# Altium schematic symbol library Systolic.SCHLIB: 40 symbols
Pins are listed as number, name and electrical type; pins without a type are passive.

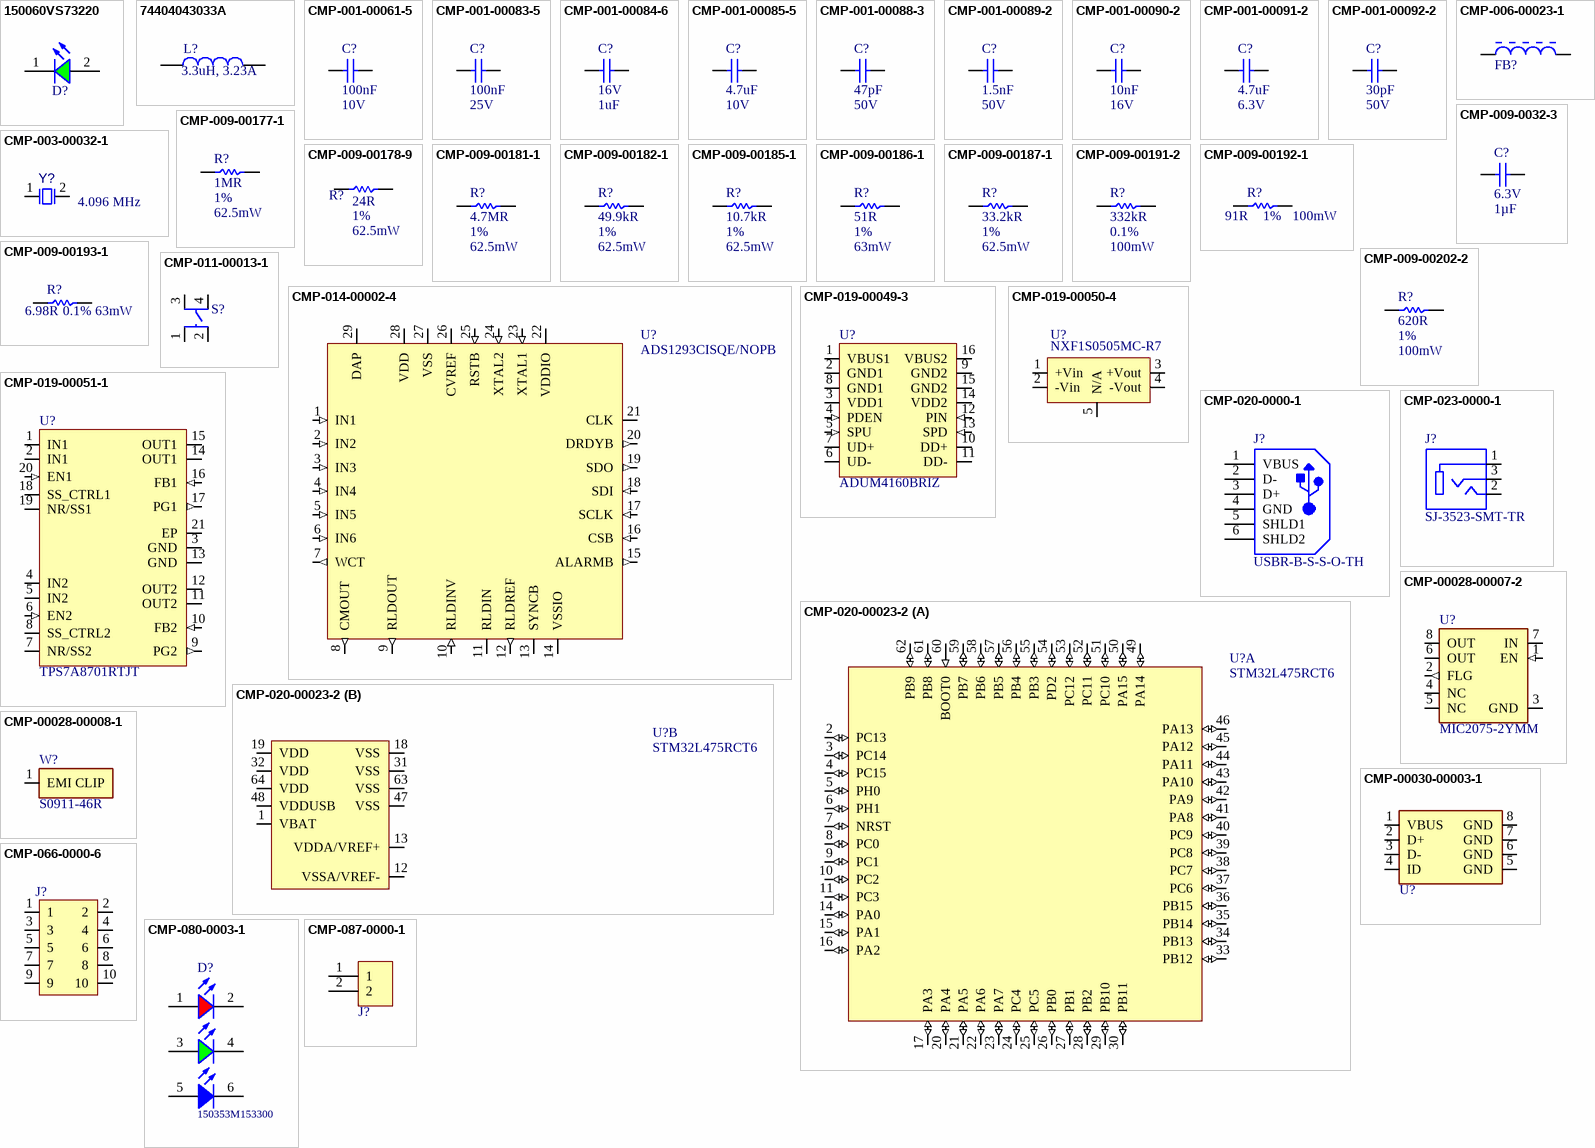
[diagram p0: symbols 150060VS73220 to CMP-087-0000-1]

## 150060VS73220
designator D?  (value not drawn)
WL-SMCC SMD Mono-color Chip LED Compact, size 0603, Bright Green, 2V, 120deg; Dominant Wavelength: 573nm; Luminous Intensity: 60mcd; Peak Wavelength: 575nm; Chip Technology: AlInGaP; ComponentLink1URL: http://www.we-online.de; ComponentLink2Description: Datasheet; ComponentLink2URL: https://katalog.we-online.com/led/datasheet/150060VS73220.pdf; Part Number: 150060VS73220; Published Date: July 2019; Publisher: Wurth Elektronik; Size: 0603; Viewing Angle: 120deg; Packaging: Tape and Reel; Emitting Color: Bright Green; Mounting Technology: SMT; Forward Voltage: 2V; Operating Temperature: -40 to +85degC
footprint WL-SMCC_0603_RS_VS_YS
pins: 1 K, 2 A

## 74404043033A
designator L?, comment 3.3uH, 3.23A
WE-LQS SMT Power Inductor, size 4025, 3.3uH, 3.23A; Manufacturer: Wurth Elektronik; Manufacturer Part Number: 74404043033A; Saturation Current: 1.75A; Self Resonant Frequency: 75MHz; DC Resistance: 33mOhm; ComponentLink1Description: Manufacturer; ComponentLink1URL: http://www.we-online.de; ComponentLink2Description: Datasheet; ComponentLink2URL: https://www.we-online.com/catalog/datasheet/74404043033A.pdf; Published Date: May 2020; Rated Current: 3.23A; Operating Temperature: -40 to +125degC; Mounting Technology: SMT; Packaging: Tape and Reel; Inductance: 3.3uH; Size: 4025
footprint WE-LQS_4025
pins: 1, 2

## CMP-001-00061-5
designator C?, comment Capacitance: 100nF  Voltage Rating: 10V  (hidden comment: C0402C104K8PACTU)
Cap Ceramic 0.1uF 10V X5R 10% SMD 0402 85°C; Manufacturer 1: KEMET; Dissipation Factor: 5%; Number of Pins: 2; Case Code (Metric): 1005; Min Operating Temperature: -55°C; Thickness: 0.022inch; Radiation Hardening: No; Packaging: Tape and Reel; Depth: 0.5mm; Voltage: 10V; Lead Pitch: 0.3mm; Voltage Rating (DC): 10V; Mount: Surface Mount,PCB; Max Operating Temperature: 85°C; Termination: SMD/SMT; Case Code (Imperial): 0402; Width: 0.02inch; REACH SVHC: No SVHC; Contact Plating: Tin,Matte; Length: 1mm; Package Quantity: 1; Dielectric: X5R; Tolerance: 10%; Lead Free: Lead Free; Dielectric Material: Ceramic; Case/Package: 0402; Height: 0.5mm; Manufacturer Part Number 1: C0402C104K8PACTU; Component Type: Capacitors
footprint 0402 CAPACITOR (Chip Capacitor, 2-Leads, Body 1.00x0.50mm, IPC Medium Density)
pins: 1 (power), 2 (power)

## CMP-001-00083-5
designator C?, comment value 100nF  Voltage Rating: 25V  (hidden comment: CGA3E2X7R1E104K080AA)
Cap Ceramic 0.1uF 25V X7R 10% SMD 0603 125°C; Manufacturer 1: TDK; Max Operating Temperature: 125°C; Mount: Surface Mount; Thickness: 0.035inch; Composition: Ceramic; Lead Free: Lead Free; Case/Package: 0603; Packaging: Tape and Reel; Ratings: AEC-Q200; Min Operating Temperature: -55°C; Weight: 7.1E-05oz; Width: 0.031inch; Termination: SMD/SMT; Tolerance: 10%; Package Quantity: 1; REACH SVHC: No SVHC; Dielectric: X7R; Voltage Rating (DC): 25V; Case Code (Imperial): 0603; Height: 0.8mm; Case Code (Metric): 1608; Depth: 0.8mm; Length: 1.6mm; Manufacturer Part Number 1: CGA3E2X7R1E104K080AA; Component Type: Capacitors
footprint 0603 CAPACITOR (Chip Capacitor, 2-Leads, Body 1.60x0.80mm, IPC Medium Density)
pins: 1 (power), 2 (power)

## CMP-001-00084-6
designator C?, comment Voltage Rating: 16V  Capacitance: 1uF  (hidden comment: EMK105BJ105KV-F)
Cap Ceramic 1uF 16V X5R 10% SMD 0402 85°C; Manufacturer 1: Taiyo Yuden; Case Code (Metric): 1005; Thickness: 0.022inch; REACH SVHC: Unknown; Termination: SMD/SMT; Packaging: Tape and Reel; Max Operating Temperature: 85°C; Package Quantity: 1; Tolerance: 10%; Mount: Surface Mount; Number of Pins: 2; Halogen Free: Halogen Free; Height: 0.5mm; Voltage Rating (DC): 16V; Case Code (Imperial): 0402; Case/Package: 0402; Width: 0.02inch; Depth: 0.5mm; Radiation Hardening: No; Min Operating Temperature: -55°C; Length: 1mm; Dielectric: X5R; Manufacturer Part Number 1: EMK105BJ105KV-F; Component Type: Capacitors
footprint 0402 CAPACITOR (Chip Capacitor, 2-Leads, Body 1.00x0.50mm, IPC Medium Density)
pins: 1 (power), 2 (power)

## CMP-001-00085-5
designator C?, comment value 4.7uF  Voltage Rating: 10V  (hidden comment: LMK107BJ475KA-T)
Cap Ceramic 4.7uF 10V X5R 10% SMD 0603 85°C; Manufacturer 1: Taiyo Yuden; Case Code (Imperial): 0603; Number of Pins: 2; Dielectric: X5R; Dielectric Material: Ceramic; Contact Plating: Nickel; REACH SVHC: Unknown; Package Quantity: 1; Width: 0.031inch; Lead Free: Lead Free; Min Operating Temperature: -55°C; Packaging: Tape and Reel; Height: 0.8mm; Case Code (Metric): 1608; Length: 1.6mm; Tolerance: 10%; Case/Package: 0603; Max Operating Temperature: 85°C; Radiation Hardening: No; Mount: Surface Mount; Voltage Rating (DC): 10V; Depth: 0.8mm; Halogen Free: Halogen Free; Termination: SMD/SMT; Thickness: 0.035inch; Manufacturer Part Number 1: LMK107BJ475KA-T; Component Type: Capacitors
footprint 0603 CAPACITOR (Chip Capacitor, 2-Leads, Body 1.60x0.80mm, IPC Medium Density)
pins: 1 (power), 2 (power)

## CMP-001-00088-3
designator C?, comment Capacitance: 47pF  Voltage Rating: 50V  (hidden comment: MCMT15N470F500CT)
Cap Ceramic 47pF 50V C0G 1% SMD 0402 125°C; Manufacturer 1: Multicomp; Dielectric: C0G; Case Code (Metric): 1005; Max Operating Temperature: 125°C; Case/Package: 0402; Tolerance: 1%; Voltage Rating (DC): 50V; REACH SVHC: No SVHC; Packaging: Cut Tape; Case Code (Imperial): 0402; Min Operating Temperature: -55°C; Manufacturer Part Number 1: MCMT15N470F500CT; Component Type: Capacitors
footprint 0402 CAPACITOR (Chip Capacitor, 2-Leads, Body 1.00x0.50mm, IPC Medium Density)
pins: 1 (power), 2 (power)

## CMP-001-00089-2
designator C?, comment Capacitance: 1.5nF  Voltage Rating: 50V  (hidden comment: 0402B152J500CT)
Cap Ceramic 1.5nF 50V X7R 5% SMD 0402 125°C; Manufacturer 1: Walsin Technologies; Packaging: Tape and Reel; Max Operating Temperature: 125°C; Case Code (Metric): 1005; Length: 1mm; Voltage Rating (DC): 50V; Tolerance: 5%; Min Operating Temperature: -55°C; REACH SVHC: Unknown; Case Code (Imperial): 0402; Dielectric: X7R; Depth: 0.5mm; Case/Package: 0402; Manufacturer Part Number 1: 0402B152J500CT; Component Type: Capacitors
footprint 0402 CAPACITOR (Chip Capacitor, 2-Leads, Body 1.00x0.50mm, IPC Medium Density)
pins: 1 (power), 2 (power)

## CMP-001-00090-2
designator C?, comment Capacitance: 10nF  Voltage Rating: 16V  (hidden comment: MC0402B103J160CT)
Cap Ceramic 10nF 16V X7R 5% SMD 0402 125°C; Manufacturer 1: Multicomp; Case Code (Imperial): 0402; Case Code (Metric): 1005; Packaging: Tape and Reel; Min Operating Temperature: -55°C; Voltage Rating (DC): 16V; Case/Package: 0402; Dielectric: X7R; REACH SVHC: Unknown; Tolerance: 5%; Max Operating Temperature: 125°C; Manufacturer Part Number 1: MC0402B103J160CT; Component Type: Capacitors
footprint 0402 CAPACITOR (Chip Capacitor, 2-Leads, Body 1.00x0.50mm, IPC Medium Density)
pins: 1 (power), 2 (power)

## CMP-001-00091-2
designator C?, comment Capacitance: 4.7uF  Voltage Rating: 6.3V  (hidden comment: CL10A475KQ8NNNC)
Cap Ceramic 4.7uF 6.3V X5R 10% SMD 0402 85°C; Manufacturer 1: Samsung; Max Operating Temperature: 85°C; Radiation Hardening: No; Voltage: 6.3V; Case Code (Metric): 1608; Case/Package: 0603; Tolerance: 10%; Dielectric: X5R; Mount: Surface Mount; Packaging: Tape and Reel; Height: 0.8mm; Thickness: 0.035inch; Length: 1.6mm; Contact Plating: Tin; Package Quantity: 1; Depth: 0.8mm; Min Operating Temperature: -55°C; Width: 0.031inch; Material: Ceramic; Case Code (Imperial): 0603; Manufacturer Part Number 1: CL10A475KQ8NNNC; Component Type: Capacitors
footprint 0402 CAPACITOR (Chip Capacitor, 2-Leads, Body 1.00x0.50mm, IPC Medium Density)
pins: 1 (power), 2 (power)

## CMP-001-00092-2
designator C?, comment Capacitance: 30pF  Voltage Rating: 50V  (hidden comment: MC0402N300J500CT)
Cap Ceramic 30pF 50V C0G 5% SMD 0402 125°C; Manufacturer 1: Multicomp; Temperature Coefficient: 30ppm/°C; Packaging: Cut Tape; Case/Package: 0402; Min Operating Temperature: -55°C; Number of Pins: 2; Voltage Rating (DC): 50V; Case Code (Imperial): 0402; Max Operating Temperature: 125°C; REACH SVHC: No SVHC; Case Code (Metric): 1005; Width: 0.5mm; Dielectric: C0G; Tolerance: 5%; Manufacturer Part Number 1: MC0402N300J500CT; Component Type: Capacitors
footprint 0402 CAPACITOR (Chip Capacitor, 2-Leads, Body 1.00x0.50mm, IPC Medium Density)
pins: 1 (power), 2 (power)

## CMP-003-00032-1
designator Y?, comment Frequency: 4.096 MHz  (hidden comment: ABLS-4.096MHZ-20-B-4-Y-T)
Load Capacitance: 20 pF; Frequency Tolerance: 30ppm; Component Type: Crystals & Oscillators
footprint Crystal
pins: 1, 2

## CMP-006-00023-1
designator FB?, comment BLM15AX601SN1D  (value not drawn)
Ferrite Beads Multi-Layer 600Ohm 25% 100MHz 500mA 340mOhm DCR 0402 T/R; Manufacturer 1: Murata; Number of Lines: 1; DC Resistance (DCR): 340mR; Material: Steel,Ferrite; Impedance: 600R; Core Material: Ferrite; Width: 0.5mm; Lead Free: Lead Free; Case/Package: 0402; Max Current Rating: 500mA; Number of Pins: 2; Case Code (Metric): 1005; Case Code (Imperial): 0402; Min Operating Temperature: -55°C; REACH SVHC: No SVHC; Length: 1mm; Termination: SMD/SMT; Package Quantity: 1; Tolerance: 25%; Current Rating: 500mA; Depth: 0.5mm; Height: 0.5mm; Max Operating Temperature: 125°C; Number of Circuits: 1; Test Frequency: 100MHz; Packaging: Tape and Reel; Max DC Current: 500mA; Manufacturer Part Number 1: BLM15AX601SN1D; Component Type: Inductors
footprint 0402 RESISTOR (Chip Resistor, 2-Leads, Body 1.00x0.50mm, IPC Medium Density)
pins: 1, 2

## CMP-009-0032-3
designator C?, comment value 1µF  Voltage Rating (DC): 6.3V  (hidden comment: C0402C105K9PACTU)
CAP CER 1UF 6.3V 10% X5R 0402; Manufacturer: KEMET; Dielectric Material: Ceramic; ComponentLink2URL: https://datasheet.ciiva.com/11786/0900766b8116eb59-11786028.pdf?src-supplier=RSComponents; Mount: Surface Mount; REACH SVHC: No SVHC; Height: 0.5mm; Max Operating Temperature: 85°C; ComponentLink5Description: https://datasheet.ciiva.com/18192/getdatasheetpartid-127800-18192427.pdf?src-supplier=Verical; Category: Ceramic Capacitors; Package Quantity: 1; Manufacturer Part Number: C0402C105K9PACTU; ComponentLink5URL: https://datasheet.ciiva.com/18192/getdatasheetpartid-127800-18192427.pdf?src-supplier=Verical; Case/Package: 0402; Tolerance: 10%; Packaging: Tape and Reel; ComponentLink4Description: https://datasheet.ciiva.com/7747/40889-7747623.pdf?src-supplier=Element14; Width: 0.02inch; RoHS: Yes; Depth: 0.5mm; ComponentLink1URL: https://datasheet.ciiva.com/28645/1789732-28645392.pdf?src-supplier=Element14; Length: 1mm; Source: MyLib.SchLib; Stock 1: 76830; Lead Pitch: 0.3mm; Pins: 2; Thickness: 0.022inch; Termination: SMD/SMT; ComponentLink3URL: https://datasheet.ciiva.com/7747/kem-c1006-x5r-smd-7747445.pdf?src-supplier=Element14; Pricing 1: 10=0.02950, 100=0.01910, 500=0.01410, 2500=0.01080, 5000=0.00930 (GBP); ComponentLink1Description: https://datasheet.ciiva.com/28645/1789732-28645392.pdf?src-supplier=Element14; ComponentLink2Description: https://datasheet.ciiva.com/11786/0900766b8116eb59-11786028.pdf?src-supplier=RSComponents; Design Item ID: C0402C105K9PACTU; Radiation Hardening: No; Voltage Rating: 6.3V; ComponentLink4URL: https://datasheet.ciiva.com/7747/40889-7747623.pdf?src-supplier=Element14; Min Operating Temperature: -55°C; Dielectric: X5R; Voltage: 6.3V; ComponentLink3Description: https://datasheet.ciiva.com/7747/kem-c1006-x5r-smd-7747445.pdf?src-supplier=Element14; Lead Free: Lead Free; Manufacturer 1: KEMET; Manufacturer Part Number 1: C0402C105K9PACTU; Component Type: Capacitors
footprint 0402 CAPACITOR (Chip Capacitor, 2-Leads, Body 1.00x0.50mm, IPC Medium Density)
pins: 1 (power), 2 (power)

## CMP-009-00177-1
designator R?, comment Resistance: 1MR  Tolerance: 1%  Power Rating: 62.5mW  (hidden comment: MCWR04X1004FTL)
1MR 0402; Manufacturer 1: Multicomp; Voltage Rating (DC): 50V; Temperature Coefficient: 100ppm/°C; Case Code (Metric): 1005; Case/Package: 0402; Voltage Rating: 50V; Mount: Surface Mount; Packaging: Cut Tape; REACH SVHC: No SVHC; Composition: Thick Film; Case Code (Imperial): 0402; Manufacturer Part Number 1: MCWR04X1004FTL; Component Type: Resistors
footprint 0402 RESISTOR (Chip Resistor, 2-Leads, Body 1.00x0.50mm, IPC Medium Density)
pins: 1 (power), 2 (power)

## CMP-009-00178-9
designator R?, comment Resistance: 24R  Tolerance: 1%  Power Rating: 62.5mW  (hidden comment: MCMR04X24R0FTL)
MULTICOMP - MCMR04X24R0FTL - RES, CERAMIC 24R, 1%, 0.063W, 0402; Voltage Rating (DC): 50V; Temperature Coefficient: 100ppm/°C; REACH SVHC: No SVHC; Case/Package: 0402; Packaging: Cut Tape; Voltage Rating: 50V; Case Code (Metric): 1005; Composition: Ceramic; Case Code (Imperial): 0402; Manufacturer 1: Multicomp; Manufacturer Part Number 1: MCMR04X24R0FTL; Component Type: Resistors
footprint 0402 RESISTOR (Chip Resistor, 2-Leads, Body 1.00x0.50mm, IPC Medium Density)
pins: 1 (power), 2 (power)

## CMP-009-00181-1
designator R?, comment Resistance: 4.7MR  Tolerance: 1%  Power Rating: 62.5mW  (hidden comment: MCWR04W4704FTL)
Res Thick FIlm 4.7MR 50V 1% SMD 0402; Manufacturer 1: Multicomp; Temperature Coefficient: 100ppm/°C; REACH SVHC: No SVHC; Voltage Rating: 50V; Voltage Rating (DC): 50V; Case/Package: 0402; Case Code (Metric): 1005; Packaging: Cut Tape; Mount: Surface Mount; Case Code (Imperial): 0402; Composition: Thick Film; Manufacturer Part Number 1: MCWR04W4704FTL; Component Type: Resistors
footprint 0402 RESISTOR (Chip Resistor, 2-Leads, Body 1.00x0.50mm, IPC Medium Density)
pins: 1 (power), 2 (power)

## CMP-009-00182-1
designator R?, comment Resistance: 49.9kR  Tolerance: 1%  Power Rating: 62.5mW  (hidden comment: MCWR04X4992FTL)
Res Thick FIlm 49.9kR 50V 1% SMD 0402; Manufacturer 1: Multicomp; Temperature Coefficient: 100ppm/°C; Packaging: Cut Tape; Composition: Thick Film; Voltage Rating: 50V; Case/Package: 0402; REACH SVHC: No SVHC; Voltage Rating (DC): 50V; Case Code (Imperial): 0402; Case Code (Metric): 1005; Manufacturer Part Number 1: MCWR04X4992FTL; Component Type: Resistors
footprint 0402 RESISTOR (Chip Resistor, 2-Leads, Body 1.00x0.50mm, IPC Medium Density)
pins: 1 (power), 2 (power)

## CMP-009-00185-1
designator R?, comment Resistance: 10.7kR  Tolerance: 1%  Power Rating: 62.5mW  (hidden comment: MCWR04X1072FTL)
MULTICOMP - MCMR04X24R0FTL - RES, CERAMIC 10.7kR, 1%, 0.063W, 0402; Voltage Rating (DC): 50V; Temperature Coefficient: 100ppm/°C; Case Code (Metric): 1005; Composition: Ceramic; REACH SVHC: No SVHC; Case Code (Imperial): 0402; Packaging: Cut Tape; Voltage Rating: 50V; Case/Package: 0402; Manufacturer 1: Multicomp; Manufacturer Part Number 1: MCWR04X1072FTL; Component Type: Resistors
footprint 0402 RESISTOR (Chip Resistor, 2-Leads, Body 1.00x0.50mm, IPC Medium Density)
pins: 1 (power), 2 (power)

## CMP-009-00186-1
designator R?, comment Resistance: 51R  Tolerance: 1%  Power Rating: 63mW  (hidden comment: CRCW040251R0FKED)
51R 0402 AEC-Q200; Manufacturer 1: Vishay; Voltage Rating (DC): 50V; Temperature Coefficient: 100ppm/°C; Lead Free: Lead Free; REACH SVHC: Unknown; Package Quantity: 10; Case Code (Imperial): 0402; Case Code (Metric): 1005; Military Standard: Not; Length: 1mm; Width: 0.5mm; Number of Terminations: 2; Voltage Rating: 50V; Weight: 2.3E-05oz; Case/Package: 0402; Max Operating Temperature: 155°C; Max Power Dissipation: 63mW; Termination: SMD/SMT; Depth: 0.5mm; Packaging: Tape and Reel; Features: Automotive AEC-Q200; Min Operating Temperature: -55°C; Composition: Thick Film; Radiation Hardening: No; Number of Pins: 2; Height: 0.35mm; Contact Plating: Tin; Manufacturer Part Number 1: CRCW040251R0FKED; Component Type: Resistors
footprint 0402 RESISTOR (Chip Resistor, 2-Leads, Body 1.00x0.50mm, IPC Medium Density)
pins: 1 (power), 2 (power)

## CMP-009-00187-1
designator R?, comment Resistance: 33.2kR  Tolerance: 1%  Power Rating: 62.5mW  (hidden comment: MCWR04X3322FTL)
MULTICOMP - MCMR04X24R0FTL - RES, CERAMIC 33.2kR, 1%, 0.063W, 0402; Voltage Rating (DC): 50V; Temperature Coefficient: 100ppm/°C; Voltage Rating: 50V; Case Code (Imperial): 0402; Composition: Ceramic; Case Code (Metric): 1005; Packaging: Cut Tape; REACH SVHC: No SVHC; Case/Package: 0402; Manufacturer 1: Multicomp; Manufacturer Part Number 1: MCWR04X3322FTL; Component Type: Resistors
footprint 0402 RESISTOR (Chip Resistor, 2-Leads, Body 1.00x0.50mm, IPC Medium Density)
pins: 1 (power), 2 (power)

## CMP-009-00191-2
designator R?, comment Resistance: 332kR  Tolerance: 0.1%  Power Rating: 100mW  (hidden comment: MCT06030E3323BP100)
Surface Mount Thin Film Resistor, Mct Series, 332 Kohm, 100 Mw, - 0.1%, 75 V Rohs Compliant: Yes; Manufacturer 1: Vishay; Voltage Rating: 75V; Composition: Thin Film; Voltage Rating (DC): 75V; REACH SVHC: Unknown; Lead Free: Lead Free; Packaging: Cut Tape; Case Code (Metric): 1608; Case Code (Imperial): 0603; Mount: Surface Mount; Case/Package: 0603; Manufacturer Part Number 1: MCT06030E3323BP100; Component Type: Resistors
footprint MCT06030E3323BP100 (Chip Resistor, 2-Leads, Body 1.55x0.85mm, IPC Medium Density)
pins: 1 (power), 2 (power)

## CMP-009-00192-1
designator R?, comment Resistance: 91R  Tolerance: 1%  Power Rating: 100mW  (hidden comment: CRCW060391R0FKEA)
RES, THICK FILM 91R, 1%, 0.1W, 0603; Manufacturer 1: Vishay; Voltage Rating: 75V; Temperature Coefficient: 100ppm/°C; Height: 0.45mm; Packaging: Tape and Reel; Package Quantity: 10; Military Standard: Not; Composition: Thick Film; Contact Plating: Tin; Case Code (Imperial): 0603; Radiation Hardening: No; Weight: 7.1E-05oz; Case Code (Metric): 1608; Case/Package: 0603; REACH SVHC: Unknown; Termination: SMD/SMT; Lead Free: Lead Free; Depth: 0.85mm; Length: 1.55mm; Max Operating Temperature: 155°C; Min Operating Temperature: -55°C; Voltage Rating (DC): 75V; Number of Pins: 2; Number of Terminations: 2; Features: Automotive AEC-Q200; Width: 0.033inch; Max Power Dissipation: 100mW; Manufacturer Part Number 1: CRCW060391R0FKEA; Component Type: Resistors
footprint 0603 RESISTOR (Chip Resistor, 2-Leads, Body 1.60x0.80mm, IPC Medium Density)
pins: 1 (power), 2 (power)

## CMP-009-00193-1
designator R?, comment Resistance: 6.98R  Tolerance: 0.1%  Power Rating: 63mW  (hidden comment: RN73C1J6R98BTDF)
RES, THIN FILM 6.98R, 0.1%, 0.063W, 0603; Manufacturer 1: TE Connectivity; Voltage Rating (DC): 50V; Temperature Coefficient: 10ppm/°C; Number of Resistors: 1; Max Operating Temperature: 155°C; Case Code (Metric): 1608; Length: 1.55mm; Weight: 7.1E-05oz; Composition: Thin Film; Height: 0.45mm; Case Code (Imperial): 0603; Case/Package: 0603; Mount: Surface Mount; Min Operating Temperature: -55°C; Voltage Rating: 50V; Termination: Solder; Width: 0.8mm; Package Quantity: 1000; Packaging: Tape and Reel; ELV: Compliant; Number of Terminations: 2; Manufacturer Part Number 1: RN73C1J6R98BTDF; Component Type: Resistors
footprint 0603 RESISTOR (Chip Resistor, 2-Leads, Body 1.60x0.80mm, IPC Medium Density)
pins: 1 (power), 2 (power)

## CMP-009-00202-2
designator R?, comment Resistance: 620R  Tolerance: 1%  Power Rating: 100mW  (hidden comment: MCMR06X6200FTL)
RES, CERAMIC, 620R, 1%, 0.1W, 0603; Manufacturer 1: Multicomp; Temperature Coefficient: 100ppm/°C; Voltage Rating: 75V; Case/Package: 0603; Case Code (Metric): 1608; Packaging: Cut Tape; REACH SVHC: No SVHC; Case Code (Imperial): 0603; Composition: Ceramic; Voltage Rating (DC): 75V; Manufacturer Part Number 1: MCMR06X6200FTL; Component Type: Resistors
footprint 0603 RESISTOR (Chip Resistor, 2-Leads, Body 1.60x0.80mm, IPC Medium Density)
pins: 1 (power), 2 (power)

## CMP-011-00013-1
designator S?, comment TL3305BF260QG  (value not drawn)
Switch Tactile N.O. SPST Round Button Gull Wing 0.05A 12VDC 2.55N SMD T/R; Manufacturer 1: E-Switch; Illumination Type: Non-Illuminated; Mechanical Life: 200000Cycles; Actuator Type: Standard; Operating Force: 260gf; Switch Travel: 0.2mm; Switch Function: Off-Mom; Lead Free: Lead Free; Throw Configuration: SPST; Termination: Gull Wing; Max Operating Temperature: 70°C; Mount: Surface Mount; Min Operating Temperature: -20°C; Packaging: Tape and Reel; Manufacturer Part Number 1: TL3305BF260QG; Component Type: Switches
footprint TL3305BF260QG-Footprint-1
pins: 1 (power), 2 (power), 3 (power), 4 (power)

## CMP-014-00002-4
designator U?, comment ADS1293CISQE/NOPB
AFE General Purpose 3ADC 24-Bit 3.3V/5V 28-Pin LLP EP T/R; Manufacturer 1: Texas Instruments; Operating Supply Current: 825uA; Number of Channels: 3; Resolution: 24b; Max Supply Voltage: 5.5V; Interface: SPI; Signal to Noise Ratio (SNR): 110dB; Min Supply Voltage: 2.7V; Conversion Rate: 25.6KS/s; Number of Bits: 24; Sampling Rate: 25KS/s; REACH SVHC: No SVHC; Length: 5mm; Max Operating Temperature: 85°C; Radiation Hardening: No; Type: General Purpose; Number of Pins: 28; Height: 0.8mm; Mount: Surface Mount; Min Operating Temperature: -20°C; Lead Free: Lead Free; Width: 5mm; Number of A/D Converters: 3; Packaging: Tape and Reel; Number of Converters: 3; Number of Inputs: 3; Manufacturer Part Number 1: ADS1293CISQE/NOPB; Component Type: Amplifiers
footprint QFN50P500X500X80_HS-29N (QFN, 28-Leads, Body 5.00x5.00mm, Pitch 0.50mm, Thermal Pad 2.95x2.95mm, IPC Medium Density)
pins: 1 IN1 (in), 2 IN2 (in), 3 IN3 (in), 4 IN4 (in), 5 IN5 (in), 6 IN6 (in), 7 WCT (out), 8 CMOUT (out), 9 RLDOUT (out), 10 RLDINV (in), 11 RLDIN (io), 12 RLDREF (out), 13 SYNCB (io), 14 VSSIO (power), 15 ALARMB (out), 16 CSB (in), 17 SCLK (in), 18 SDI (in), 19 SDO (out), 20 DRDYB (out), 21 CLK (io), 22 VDDIO (power), 23 XTAL1 (in), 24 XTAL2 (in), 25 RSTB (in), 26 CVREF (io), 27 VSS (power), 28 VDD (power), 29 DAP

## CMP-019-00049-3
designator U?, comment ADUM4160BRIZ
ANALOG DEVICES   ADUM4160BRIZ   Digital Isolator, 1, 60 ns, 3.1 V, 5.5 V, SOIC, 16 Pins; Isolated Power: No; Number of Channels: 2; Min Supply Voltage: 3.1V; Propagation Delay: 70ns; Max Supply Voltage: 5.5V; Rise Time: 20ns; Channel Type: Bidirectional; Nominal Supply Current: 6mA; Data Rate: 12Mbps; Max Input Current: 8mA; Turn-On Delay Time: 60ns; Depth: 2.65mm; Contact Plating: Tin,Matte; REACH SVHC: No SVHC; Min Operating Temperature: -40°C; Lead Free: Contains Lead; Number of Pins: 16; Packaging: Rail/Tube; Case/Package: SOIC; Length: 10.5mm; Package Quantity: 37; Max Operating Temperature: 105°C; Width: 7.6mm; Manufacturer 1: Analog Devices; Manufacturer Part Number 1: ADUM4160BRIZ; Component Type: Logic
footprint SOIC127P1030X265-16N (SOIC, 16-Leads, Body 12.80x7.50mm, Pitch 1.27mm, IPC Medium Density)
pins: 1 VBUS1 (power), 2 GND1 (power), 3 VDD1 (power), 4 PDEN (in), 5 SPU (in), 6 UD- (io), 7 UD+ (io), 8 GND1 (power), 9 GND2 (power), 10 DD+ (io), 11 DD- (io), 12 PIN (in), 13 SPD (in), 14 VDD2 (power), 15 GND2 (power), 16 VBUS2 (power)

## CMP-019-00050-4
designator U?, comment NXF1S0505MC-R7
Module Dc-dc 5 Vin 1-OUT 5V 0.2A 1W 5-PIN SMD T/r; Manufacturer 1: Murata; Manufacturer Part Number 1: NXF1S0505MC-R7; Component Type: Power Supply
footprint QFN254P1524X1067X501-6N (QFN, 6-Leads, Body 15.24x10.67mm, Pitch 2.54mm, IPC Medium Density)
pins: 1 +Vin (power), 2 -Vin (power), 3 +Vout (power), 4 -Vout (power), 5 N/A

## CMP-019-00051-1
designator U?, comment TPS7A8701RTJT
IC REG LIN POS ADJ 500MA 20QFN; Manufacturer 1: Texas Instruments; Min Input Voltage: 1.4V; Dropout Voltage: 100mV; Quiescent Current: 2.1mA; Voltage - Output 2: 5.2V; Number of Outputs: 2; Max Input Voltage: 6.5V; Packaging: Cut Tape; Lead Free: Lead Free; Current - Output 2: 500mA; REACH SVHC: No SVHC; Voltage - Output 1: 5.2V; Number of Pins: 20; Current - Output 1: 500mA; Min Operating Temperature: -40°C; Max Operating Temperature: 125°C; Manufacturer Part Number 1: TPS7A8701RTJT; Component Type: Power Supply
footprint QFN50P400X400X80_HS-21N (QFN, 20-Leads, Body 4.00x4.00mm, Pitch 0.50mm, Thermal Pad 2.70x2.70mm, IPC Medium Density)
pins: 1 IN1 (power), 2 IN1 (power), 3 GND (power), 4 IN2 (power), 5 IN2 (power), 6 EN2 (in), 7 NR/SS2 (power), 8 SS_CTRL2 (power), 9 PG2 (out), 10 FB2 (in), 11 OUT2 (power), 12 OUT2 (power), 13 GND (power), 14 OUT1 (power), 15 OUT1 (power), 16 FB1 (in), 17 PG1 (out), 18 SS_CTRL1 (power), 19 NR/SS1 (power), 20 EN1 (in), 21 EP (power)

## CMP-020-0000-1
designator J?, comment USBR-B-S-S-O-TH
Conn USB F 4 POS 2.5mm Solder RA Thru-Hole 4 Terminal 1 Port Tray; Manufacturer: SamtecInc.; Manufacturer 1: Samtec; Body Orientation: RightAngle; Rad Hard: No; Max Voltage Rating (AC): 30V; USB Standard: USB 2.0; Number of Contacts: 4; Number of Ports: 1; ComponentLink1Description: https://datasheet.ciiva.com/6743/1759611-6743744.pdf?src-supplier=Newark; Mounting Technology: ThroughHole; Datasheet URL: http://suddendocs.samtec.com/prints/usbr-b-s-x-o-th-x-mkt.pdf; Orientation: Right Angle; Length: 14.9mm; Max Operating Temperature: 85°C; Manufacturer Part Number 1: USBR-B-S-S-O-TH; ComponentLink5URL: https://datasheet.ciiva.com/3094/usb-b-3094454.pdf?src-supplier=Avnet; Package Quantity: 1; Case/Package: 4-Pin Through Hole Device, Body 16.3 x 12.04 mm, Pitch 2.5 mm; ComponentLink3URL: https://datasheet.ciiva.com/851/usbr-b-s-x-o-th-x-mkt-851782.pdf?src-supplier=Digi-Key; Manufacturer URL: http://www.samtec.com/; Min Operating Temperature: -50°C; REACH SVHC: No SVHC; Connector Type: USB; ComponentLink4Description: https://datasheet.ciiva.com/26826/getdatasheetpartid-475715-26826565.pdf?src-supplier=Verical; Depth: 16.5mm; Contact Plating: Gold; ComponentLink2URL: https://datasheet.ciiva.com/7622/452555-7622677.pdf?src-supplier=Element14; ComponentLink5Description: https://datasheet.ciiva.com/3094/usb-b-3094454.pdf?src-supplier=Avnet; Packaging: Trays; Package Reference: USBR-TH; Gender: F; Design Item ID: CMP-2000-07371-1; Number of Terminals: 4; Category: ConnectorAudioandVideo; ComponentLink1URL: https://datasheet.ciiva.com/6743/1759611-6743744.pdf?src-supplier=Newark; Pricing 1: 1=1.75000, 10=1.58800, 25=1.49040, 50=1.42560, 100=1.36080, 250=1.23120, 500=1.13400, 1000=0.97200, 2500=0.90720 (USD); Termination Method: Solder; Housing Material: Thermoplastic; Mounting: ThroughHole; Datasheet Version: Rev. J, 10/2010; ComponentLink3Description: https://datasheet.ciiva.com/851/usbr-b-s-x-o-th-x-mkt-851782.pdf?src-supplier=Digi-Key; Radiation Hardening: No; ComponentLink4URL: https://datasheet.ciiva.com/26826/getdatasheetpartid-475715-26826565.pdf?src-supplier=Verical; Pitch: 2.5mm; Source: Components - 12.06.20 - 19.51.SchLib; Mount: Through Hole,Horizontal; RoHS: Yes; Termination: Solder; Contact Material: Bronze; ComponentLink2Description: https://datasheet.ciiva.com/7622/452555-7622677.pdf?src-supplier=Element14; Type: USB; Stock 1: 4434; Component Type: Connectors
footprint SMTC-USBR-TH-4_V (THD, 4-Leads, Body 16.3x12.04mm, Pitch 2.5mm)
pins: 1 VBUS, 2 D-, 3 D+, 4 GND, 5 SHLD1, 6 SHLD2

## CMP-020-00023-2
designator U?, comment STM32L475RCT6
Ultra-low-power with FPU ARM Cortex-M4 MCU 80 MHz with 256 Kbytes Flash, USB OTG; Manufacturer 1: STMicroelectronics; Oscillator Type: Internal; Frequency: 80MHz; Peripherals: Brown-out Detect/Reset,PWM,WDT,DMA; Interface: I2C,SPI,USB,IrDA,MMC,SD,UART,USART; Memory Size: 256KB; Number of I/Os: 51; Core Architecture: ARM; Max Operating Temperature: 85°C; Min Operating Temperature: -40°C; Memory Type: FLASH; Case/Package: LQFP; Packaging: Tray; Manufacturer Part Number 1: STM32L475RCT6; Component Type: Processors
footprint TSQFP50P1200X1200X160-64N (TSQFP, 64-Leads, Body 10.00x10.00mm, Pitch 0.50mm, IPC Medium Density)
part A pins: 2 PC13 (io), 3 PC14 (io), 4 PC15 (io), 5 PH0 (io), 6 PH1 (io), 7 NRST (io), 8 PC0 (io), 9 PC1 (io), 10 PC2 (io), 11 PC3 (io), 14 PA0 (io), 15 PA1 (io), 16 PA2 (io), 17 PA3 (io), 20 PA4 (io), 21 PA5 (io), 22 PA6 (io), 23 PA7 (io), 24 PC4 (io), 25 PC5 (io), 26 PB0 (io), 27 PB1 (io), 28 PB2 (io), 29 PB10 (io), 30 PB11 (io), 33 PB12 (io), 34 PB13 (io), 35 PB14 (io), 36 PB15 (io), 37 PC6 (io), 38 PC7 (io), 39 PC8 (io), 40 PC9 (io), 41 PA8 (io), 42 PA9 (io), 43 PA10 (io), 44 PA11 (io), 45 PA12 (io), 46 PA13 (io), 49 PA14 (io), 50 PA15 (io), 51 PC10 (io), 52 PC11 (io), 53 PC12 (io), 54 PD2 (io), 55 PB3 (io), 56 PB4 (io), 57 PB5 (io), 58 PB6 (io), 59 PB7 (io), 60 BOOT0 (in), 61 PB8 (io), 62 PB9 (io)
part B pins: 1 VBAT (power), 12 VSSA/VREF- (power), 13 VDDA/VREF+ (power), 18 VSS (power), 19 VDD (power), 31 VSS (power), 32 VDD (power), 47 VSS (power), 48 VDDUSB (power), 63 VSS (power), 64 VDD (power)

## CMP-023-0000-1
designator J?, comment SJ-3523-SMT-TR
CONN JACK STEREO 3.5MM SMD R/A; Manufacturer 1: CUI; MF: CUI Devices; Number of Conductors: 3; Shielding: Unshielded; Current Rating: 1A; Number of Ports: 1; Gender: Female; ComponentLink2Description: https://datasheet.ciiva.com/7356/sj-352x-smt-series-7356569.pdf?src-supplier=Digi-Key; Availability: Unavailable; Case/Package: LGA-10 STMicroelectronics; ComponentLink2URL: https://datasheet.ciiva.com/7356/sj-352x-smt-series-7356569.pdf?src-supplier=Digi-Key; Price: None; Color: Black; ComponentLink1URL: https://datasheet.ciiva.com/7356/sj-352x-smt-series-7356553.pdf?src-supplier=Digi-Key; Pricing 1: 1000=0.51360, 2000=0.48150, 3000=0.46545, 5000=0.44940, 10000=0.42693, 25000=0.41730 (USD); Stock 1: 40782; Connector Type: Jack; Termination: Solder; Design Item ID: SJ-3523-SMT-TR; Lead Free: Lead Free; Contact Plating: Silver; Value: *; MP: SJ-3523-SMT-TR; ComponentLink1Description: https://datasheet.ciiva.com/7356/sj-352x-smt-series-7356553.pdf?src-supplier=Digi-Key; SnapEDA_Link: https://www.snapeda.com/parts/SJ-3523-SMT-TR/CUI%20Devices/view-part/251570/?ref=snap; Category: Connectors; Mount: Surface Mount; Packaging: Cut Tape; CUI_purchase_URL: https://www.cuidevices.com/product/interconnect/connectors/audio-connectors/jacks/sj-352x-smt-series?utm_source=snapeda.com&utm_medium=referral&utm_campaign=snapedaBOM; RoHS: Yes; Manufacturer Part Number 1: SJ-3523-SMT-TR; Source: SnapEDAsch.SchLib; Orientation: Horizontal; Manufacturer 2: CUI Devices; Manufacturer Part Number 2: SJ-3523-SMT-TR; Component Type: Connectors
footprint CUI_SJ-3523-SMT-TR
pins: 1, 2, 3

## CMP-00028-00007-2
designator U?, comment MIC2075-2YMM
MIC2075 Series 5.5 V 140 mOhm Single-Channel Power Distribution Switch - SOIC-8; Manufacturer 1: Microchip; Max Output Current: 500mA; Output Configuration: High Side; Interface: On/Off; Number of Outputs: 1; Fault Protection: Over Temperature; Min Operating Temperature: -40°C; Max Operating Temperature: 85°C; Packaging: Rail/Tube; Lead Free: Lead Free; Manufacturer Part Number 1: MIC2075-2YMM; Component Type: Mechanical
footprint TSOP65P490X102-8N (TSOP, 8-Leads, Body 2.40x3.00mm, Pitch 0.65mm, IPC Medium Density)
pins: 1 EN (in), 2 FLG (out), 3 GND (power), 4 NC, 5 NC, 6 OUT (power), 7 IN (power), 8 OUT (power)

## CMP-00028-00008-1
designator W?, comment S0911-46R
Compact RFI Shield Clip Socket Surface Mount Beryllium Copper T/R; Manufacturer 1: Harwin; Manufacturer Part Number 1: S0911-46R; Component Type: Mechanical
footprint S0911-46R-Footprint-1
pins: 1 EMI CLIP

## CMP-00030-00003-1
designator U?, comment Rclamp1255P.TGT  (value not drawn)
Tvs Diode 4V 12.5V SLP2018P6; Manufacturer 1: Semtech; Peak Pulse Power: 40W; Power Line Protection: Yes; Min Breakdown Voltage: 4.5V; Peak Pulse Current: 3A; Number of Bidirectional Channels: 3; Reverse Standoff Voltage: 4V; Min Operating Temperature: -55°C; Clamping Voltage: 12.5V; Packaging: Tape and Reel; Mount: Surface Mount; Lead Free: Lead Free; Max Operating Temperature: 125°C; Manufacturer Part Number 1: Rclamp1255P.TGT; Component Type: Miscellaneous
footprint SON40P200X65-8N (SON, 8-Leads, Body 1.80x2.00mm, Pitch 0.40mm, IPC Medium Density)
pins: 1 VBUS (power), 2 D+ (power), 3 D- (power), 4 ID (power), 5 GND (power), 6 GND (power), 7 GND (power), 8 GND (power)

## CMP-066-0000-6
designator J?, comment FTSH-105-01-L-DV-K-P  (value not drawn)
TERMINAL STRIP, .050"(1.27mm) PITCH, 10 PINS, KEYED; MANUFACTURER: SAMTEC; Manufacturer Part Number 1: FTSH-105-01-L-DV-K-P-TR; PCB DECAL: FTSH-105-01-XXX-DV-K; Design Item ID: FTSH-105-01-L-DV-K-P; Source: FTSH-105-01-L-DV-K-P.SCHLIB; CREATED: November 30, 2016 - Wendy Xin; Manufacturer 1: Samtec; Component Type: Connectors
footprint FTSH-105-01-L-DV-K-P
pins: 1 (power), 2 (power), 3 (power), 4 (power), 5 (power), 6 (power), 7 (power), 8 (power), 9 (power), 10 (power)

## CMP-080-0003-1
designator D?, comment 150353M153300
WL-SFTD SMT Full-color Top LED Diffused, size 3535, Red & Green & Blue, 120deg; Dominant Wavelength typ.: Blue:470nm, Green:520nm, Red:625nm; Peak Wavelength typ.: Blue:465nm, Green:515nm, Red:635nm; Luminous Intensity typ.: Blue:400mcd, Green:1900mcd, Red:800mcd; Chip Technology: AlInGaP + GaN; Forward Voltage typ.: Blue:3.2V, Green:3.2V, Red:2V; Published Date: December 2019; Viewing Angle: 120deg; ComponentLink2Description: Datasheet; ComponentLink2URL: https://www.we-online.com/catalog/datasheet/150353M153300.pdf; ComponentLink1Description: Manufacturer; Part Number: 150353M153300; Publisher: Wurth Elektronik; ComponentLink1URL: http://www.we-online.de; Operating Temperature: -40 to +85degC; Packaging: Tape and Reel; Source: WL-SFTD.SchLib; Mounting Technology: SMT; Emitting Color: Red & Green & Blue; Design Item ID: 150353M153300; Size: 3535; Component Type: Diodes
footprint WL-SFTD_3535 (SMD Full-color Top LED Diffused, body 3.7x3.5mm)
pins: 1 A, 2 K, 3 A, 4 K, 5 A, 6 K

## CMP-087-0000-1
designator J?, comment SAMTEC-TSW-102-07-X-SJ  (value not drawn)
Manufacturer 1: Samtec; Manufacturer Part Number 1: TSW-102-07-G-S; Component Type: Standard; Design Item ID: SAMTEC-TSW-102-07-X-SJ; Source: SAMTEC-TSW-102-07-X-S.SCHLIB; Pin Count: 2; Component Type: Connectors
footprint SAMTEC-TSW-102-07-X-S
pins: 1 (power), 2 (power)

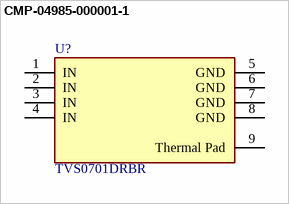
[diagram p1: symbol CMP-04985-000001-1]

## CMP-04985-000001-1
designator U?, comment TVS0701DRBR
TVS ARRAYS; Manufacturer: Texas instruments; Capacitance: 77pF; Peak Pulse Current: 30A; Standoff Height: 0mm; Direction: Bidirectional; Number Of Channels: 1; Breakdown Voltage: 9.3V; Reverse Standoff Voltage: 7V; Value: 77pF; Clamping Voltage: 11V; Temperature Range Low: -40°C; Category: IC; Lead Free: Yes; Device Class L2: ESD and Circuit Protection ICs; Ambient Temperature Range High: +125°C; RoHS: TRUE; Manufacturer Part Number: TVS0701DRBR; Device Class L3: unset; Ambient Temperature Range Low: -40°C; Mouser Description: 7-V bidirectional flat-clamp surge protection device 8-SON -40 to 125; Height: 1mm; Octopart: https://octopart.com/tvs0701drbr-texas+instruments-96189204; Automotive: No; Temperature: -40°C to +125°C; ComponentLink2URL: http://www.ti.com/lit/ds/symlink/tvs0701.pdf; Device Class L1: Circuit Protection; Package: DRB0008A; Digikey Description: TVS ARRAYS; Temperature Range High: +125°C; ComponentLink2Description: Datasheet; Manufacturer 1: Texas Instruments; Manufacturer Part Number 1: TVS0701DRBR
footprint FP-DRB0008A-MFG
pins: 1 IN, 2 IN, 3 IN, 4 IN, 5 GND (power), 6 GND (power), 7 GND (power), 8 GND (power), 9 Thermal Pad